# EAGLE library part AT93C46B (library atmega-atxmega)
The AT93C46B provides 1024 bits of serial electrically erasable programmable read only memory (EEPROM) organized as 64 words of 16 bits each. The device is optimized for use in many industrial and commercial applications where low power and low voltage operation are essential. The AT93C46B is available in space saving 8-pin PDIP and 8-pin JEDEC packages. The AT93C46B is enabled through the Chip Select pin (CS), and accessed via a 3- wire serial interface consisting of Data Input (DI), Data Output (DO), and Shift Clock (SK). Upon receiving a READ instruction at DI, the address is decoded and the data is clocked out serially on the data output pin DO. The WRITE cycle is completely selftimed and no separate ERASE cycle is required before WRITE. The WRITE cycle is only enabled when the part is in the ERASE/WRITE ENABLE state. When CS is brought “high” following the initiation of a WRITE cycle, the DO pin outputs the READY/BUSY status of the part. The AT93C46B is available in 4.5V to 5.5V, 2.7V to 5.5V, and 2.5V to 5.5V versions.
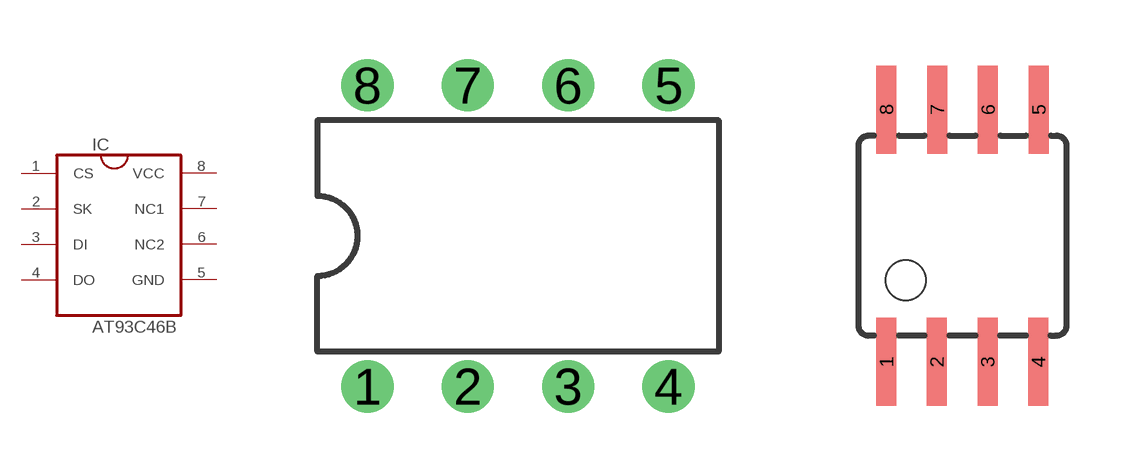
[diagram p154: symbol with the pads of DIL08; footprints DIL08, SOIC8]

Designator prefix IC

## AT93C46B  [DIL08]
1  CS  in
2  SK  in
3  DI  in
4  DO  out
5  GND  pwr
6  NC2  nc
7  NC1  nc
8  VCC  pwr

## AT93C46BSOIC8  [SOIC8]
Pads as for DIL08

## Footprint DIL08 (pad centres in mm)
Dual In Line Package
drill 0.813 pad 1.27: 1 -3.81,-3.81; 2 -1.27,-3.81; 3 1.27,-3.81; 4 3.81,-3.81; 5 3.81,3.81; 6 1.27,3.81; 7 -1.27,3.81; 8 -3.81,3.81

## Footprint SOIC8 (pad centres in mm)
Wide Plastic Gull Wing Small Outline Package
smd 0.5 x 2.2: 1 -1.905,-3.154; 2 -0.645,-3.154; 3 0.625,-3.154; 4 1.895,-3.154; 5 1.905,3.154; 6 0.635,3.154; 7 -0.635,3.154; 8 -1.905,3.154